# Altium integrated library CDE_Library.IntLib: 6171 symbols (part 12 of 25)
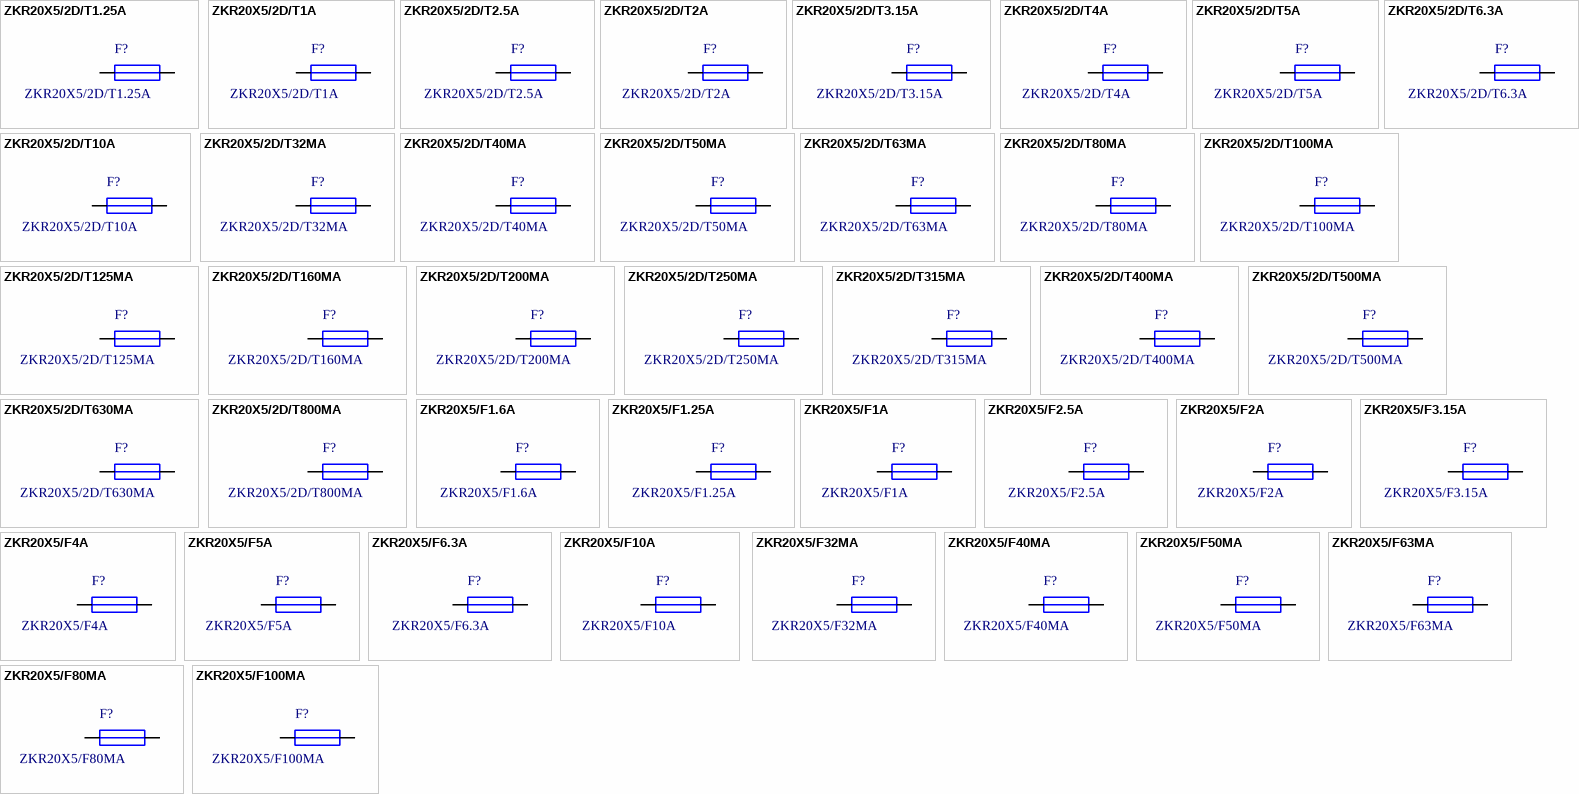
[diagram p268: symbols ZKR20X5/2D/T1.25A to ZKR20X5/F100MA]

## ZKR20X5/2D/T800MA
designator F?
zekering 20x5mm, 2-delige houder, T800mA; Part Number: ZKR20X5/2D/T800MA; Component Kind: Standard; Component Type: Standard; Designator: ZKR20X5/2D/T800MA; Footprint: zkr 20x5 (2-delig); Library Reference: ZKR20X5/2D/T800MA; Pin Count: 2
footprint zkr 20x5 (2-delig)
pins: 1, 2

## ZKR20X5/F1.6A
designator F?
zekering 20x5mm, houder uit één stuk, F1.6A; Part Number: ZKR20X5/F1.6A; Component Kind: Standard; Component Type: Standard; Designator: ZKR20X5/F1.6A; Footprint: zkr 20x5; Library Reference: ZKR20X5/F1.6A; Pin Count: 2
footprint zkr 20x5
pins: 1, 2

## ZKR20X5/F1.25A
designator F?
zekering 20x5mm, houder uit één stuk, F1.25A; Part Number: ZKR20X5/F1.25A; Component Kind: Standard; Component Type: Standard; Designator: ZKR20X5/F1.25A; Footprint: zkr 20x5; Library Reference: ZKR20X5/F1.25A; Pin Count: 2
footprint zkr 20x5
pins: 1, 2

## ZKR20X5/F1A
designator F?
zekering 20x5mm, houder uit één stuk, F1A; Part Number: ZKR20X5/F1A; Component Kind: Standard; Component Type: Standard; Designator: ZKR20X5/F1A; Footprint: zkr 20x5; Library Reference: ZKR20X5/F1A; Pin Count: 2
footprint zkr 20x5
pins: 1, 2

## ZKR20X5/F2.5A
designator F?
zekering 20x5mm, houder uit één stuk, F2.5A; Part Number: ZKR20X5/F2.5A; Component Kind: Standard; Component Type: Standard; Designator: ZKR20X5/F2.5A; Footprint: zkr 20x5; Library Reference: ZKR20X5/F2.5A; Pin Count: 2
footprint zkr 20x5
pins: 1, 2

## ZKR20X5/F2A
designator F?
zekering 20x5mm, houder uit één stuk, F2A; Part Number: ZKR20X5/F2A; Component Kind: Standard; Component Type: Standard; Designator: ZKR20X5/F2A; Footprint: zkr 20x5; Library Reference: ZKR20X5/F2A; Pin Count: 2
footprint zkr 20x5
pins: 1, 2

## ZKR20X5/F3.15A
designator F?
zekering 20x5mm, houder uit één stuk, F3.15A; Part Number: ZKR20X5/F3.15A; Component Kind: Standard; Component Type: Standard; Designator: ZKR20X5/F3.15A; Footprint: zkr 20x5; Library Reference: ZKR20X5/F3.15A; Pin Count: 2
footprint zkr 20x5
pins: 1, 2

## ZKR20X5/F4A
designator F?
zekering 20x5mm, houder uit één stuk, F4A; Part Number: ZKR20X5/F4A; Component Kind: Standard; Component Type: Standard; Designator: ZKR20X5/F4A; Footprint: zkr 20x5; Library Reference: ZKR20X5/F4A; Pin Count: 2
footprint zkr 20x5
pins: 1, 2

## ZKR20X5/F5A
designator F?
zekering 20x5mm, houder uit één stuk, F5A; Part Number: ZKR20X5/F5A; Component Kind: Standard; Component Type: Standard; Designator: ZKR20X5/F5A; Footprint: zkr 20x5; Library Reference: ZKR20X5/F5A; Pin Count: 2
footprint zkr 20x5
pins: 1, 2

## ZKR20X5/F6.3A
designator F?
zekering 20x5mm, houder uit één stuk, F6.3A; Part Number: ZKR20X5/F6.3A; Component Kind: Standard; Component Type: Standard; Designator: ZKR20X5/F6.3A; Footprint: zkr 20x5; Library Reference: ZKR20X5/F6.3A; Pin Count: 2
footprint zkr 20x5
pins: 1, 2

## ZKR20X5/F10A
designator F?
zekering 20x5mm, houder uit één stuk, F10A; Part Number: ZKR20X5/F10A; Component Kind: Standard; Component Type: Standard; Designator: ZKR20X5/F10A; Footprint: zkr 20x5; Library Reference: ZKR20X5/F10A; Pin Count: 2
footprint zkr 20x5
pins: 1, 2

## ZKR20X5/F32MA
designator F?
zekering 20x5mm, houder uit één stuk, F32mA; Part Number: ZKR20X5/F32MA; Component Kind: Standard; Component Type: Standard; Designator: ZKR20X5/F32MA; Footprint: zkr 20x5; Library Reference: ZKR20X5/F32MA; Pin Count: 2
footprint zkr 20x5
pins: 1, 2

## ZKR20X5/F40MA
designator F?
zekering 20x5mm, houder uit één stuk, F40mA; Part Number: ZKR20X5/F40MA; Component Kind: Standard; Component Type: Standard; Designator: ZKR20X5/F40MA; Footprint: zkr 20x5; Library Reference: ZKR20X5/F40MA; Pin Count: 2
footprint zkr 20x5
pins: 1, 2

## ZKR20X5/F50MA
designator F?
zekering 20x5mm, houder uit één stuk, F50mA; Part Number: ZKR20X5/F50MA; Component Kind: Standard; Component Type: Standard; Designator: ZKR20X5/F50MA; Footprint: zkr 20x5; Library Reference: ZKR20X5/F50MA; Pin Count: 2
footprint zkr 20x5
pins: 1, 2

## ZKR20X5/F63MA
designator F?
zekering 20x5mm, houder uit één stuk, F63mA; Part Number: ZKR20X5/F63MA; Component Kind: Standard; Component Type: Standard; Designator: ZKR20X5/F63MA; Footprint: zkr 20x5; Library Reference: ZKR20X5/F63MA; Pin Count: 2
footprint zkr 20x5
pins: 1, 2

## ZKR20X5/F80MA
designator F?
zekering 20x5mm, houder uit één stuk, F80mA; Part Number: ZKR20X5/F80MA; Component Kind: Standard; Component Type: Standard; Designator: ZKR20X5/F80MA; Footprint: zkr 20x5; Library Reference: ZKR20X5/F80MA; Pin Count: 2
footprint zkr 20x5
pins: 1, 2

## ZKR20X5/F100MA
designator F?
zekering 20x5mm, houder uit één stuk, F100mA; Part Number: ZKR20X5/F100MA; Component Kind: Standard; Component Type: Standard; Designator: ZKR20X5/F100MA; Footprint: zkr 20x5; Library Reference: ZKR20X5/F100MA; Pin Count: 2
footprint zkr 20x5
pins: 1, 2

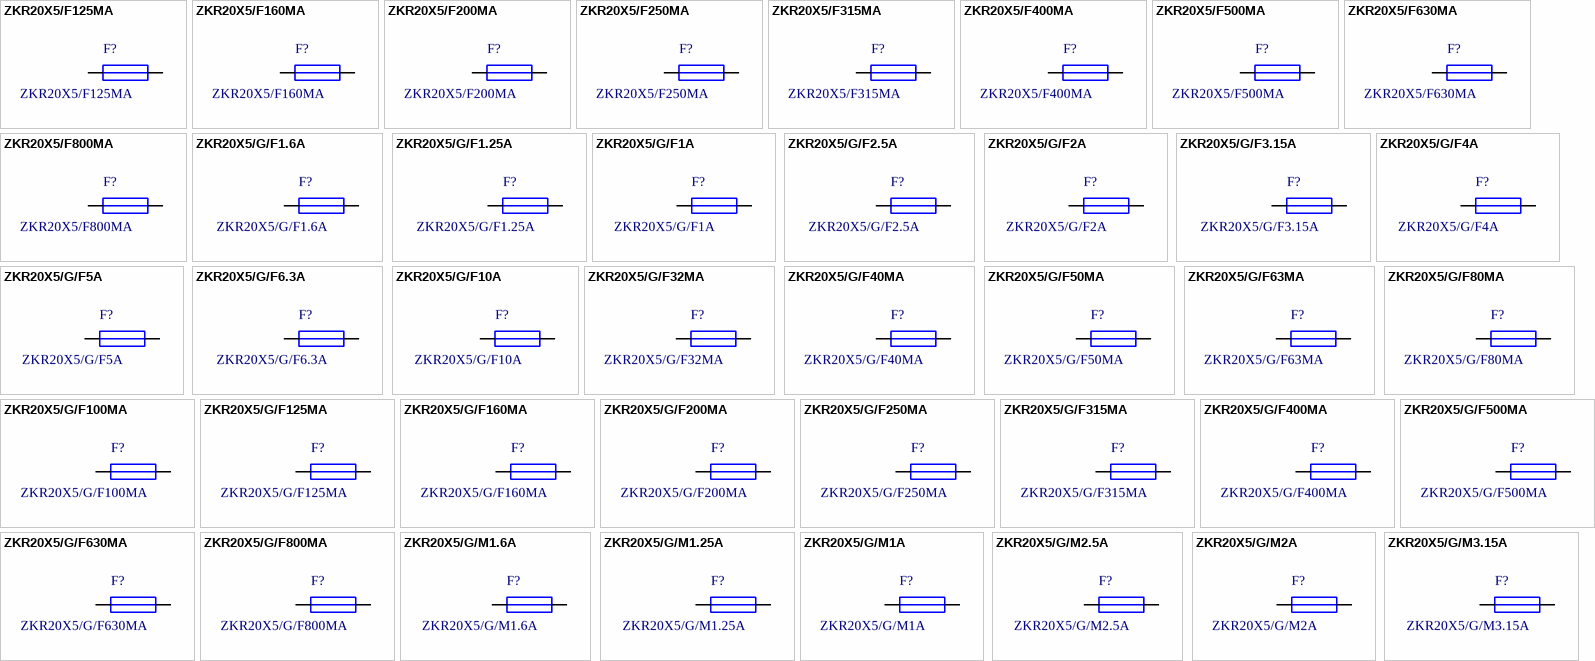
[diagram p126: symbols ZKR20X5/F125MA to ZKR20X5/G/M3.15A]

## ZKR20X5/F125MA
designator F?
zekering 20x5mm, houder uit één stuk, F125mA; Part Number: ZKR20X5/F125MA; Component Kind: Standard; Component Type: Standard; Designator: ZKR20X5/F125MA; Footprint: zkr 20x5; Library Reference: ZKR20X5/F125MA; Pin Count: 2
footprint zkr 20x5
pins: 1, 2

## ZKR20X5/F160MA
designator F?
zekering 20x5mm, houder uit één stuk, F160mA; Part Number: ZKR20X5/F160MA; Component Kind: Standard; Component Type: Standard; Designator: ZKR20X5/F160MA; Footprint: zkr 20x5; Library Reference: ZKR20X5/F160MA; Pin Count: 2
footprint zkr 20x5
pins: 1, 2

## ZKR20X5/F200MA
designator F?
zekering 20x5mm, houder uit één stuk, F200mA; Part Number: ZKR20X5/F200MA; Component Kind: Standard; Component Type: Standard; Designator: ZKR20X5/F200MA; Footprint: zkr 20x5; Library Reference: ZKR20X5/F200MA; Pin Count: 2
footprint zkr 20x5
pins: 1, 2

## ZKR20X5/F250MA
designator F?
zekering 20x5mm, houder uit één stuk, F250mA; Part Number: ZKR20X5/F250MA; Component Kind: Standard; Component Type: Standard; Designator: ZKR20X5/F250MA; Footprint: zkr 20x5; Library Reference: ZKR20X5/F250MA; Pin Count: 2
footprint zkr 20x5
pins: 1, 2

## ZKR20X5/F315MA
designator F?
zekering 20x5mm, houder uit één stuk, F315mA; Part Number: ZKR20X5/F315MA; Component Kind: Standard; Component Type: Standard; Designator: ZKR20X5/F315MA; Footprint: zkr 20x5; Library Reference: ZKR20X5/F315MA; Pin Count: 2
footprint zkr 20x5
pins: 1, 2

## ZKR20X5/F400MA
designator F?
zekering 20x5mm, houder uit één stuk, F400mA; Part Number: ZKR20X5/F400MA; Component Kind: Standard; Component Type: Standard; Designator: ZKR20X5/F400MA; Footprint: zkr 20x5; Library Reference: ZKR20X5/F400MA; Pin Count: 2
footprint zkr 20x5
pins: 1, 2

## ZKR20X5/F500MA
designator F?
zekering 20x5mm, houder uit één stuk, F500mA; Part Number: ZKR20X5/F500MA; Component Kind: Standard; Component Type: Standard; Designator: ZKR20X5/F500MA; Footprint: zkr 20x5; Library Reference: ZKR20X5/F500MA; Pin Count: 2
footprint zkr 20x5
pins: 1, 2

## ZKR20X5/F630MA
designator F?
zekering 20x5mm, houder uit één stuk, F630mA; Part Number: ZKR20X5/F630MA; Component Kind: Standard; Component Type: Standard; Designator: ZKR20X5/F630MA; Footprint: zkr 20x5; Library Reference: ZKR20X5/F630MA; Pin Count: 2
footprint zkr 20x5
pins: 1, 2

## ZKR20X5/F800MA
designator F?
zekering 20x5mm, houder uit één stuk, F800mA; Part Number: ZKR20X5/F800MA; Component Kind: Standard; Component Type: Standard; Designator: ZKR20X5/F800MA; Footprint: zkr 20x5; Library Reference: ZKR20X5/F800MA; Pin Count: 2
footprint zkr 20x5
pins: 1, 2

## ZKR20X5/G/F1.6A
designator F?
zekering 20x5mm, gesloten houder met schroefdopje, F1.6A; Part Number: ZKR20X5/G/F1.6A; Component Kind: Standard; Component Type: Standard; Designator: ZKR20X5/G/F1.6A; Footprint: zkr 20x5 (gesloten); Library Reference: ZKR20X5/G/F1.6A; Pin Count: 2
footprint zkr 20x5 (gesloten)
pins: 1, 2

## ZKR20X5/G/F1.25A
designator F?
zekering 20x5mm, gesloten houder met schroefdopje, F1.25A; Part Number: ZKR20X5/G/F1.25A; Component Kind: Standard; Component Type: Standard; Designator: ZKR20X5/G/F1.25A; Footprint: zkr 20x5 (gesloten); Library Reference: ZKR20X5/G/F1.25A; Pin Count: 2
footprint zkr 20x5 (gesloten)
pins: 1, 2

## ZKR20X5/G/F1A
designator F?
zekering 20x5mm, gesloten houder met schroefdopje, F1A; Part Number: ZKR20X5/G/F1A; Component Kind: Standard; Component Type: Standard; Designator: ZKR20X5/G/F1A; Footprint: zkr 20x5 (gesloten); Library Reference: ZKR20X5/G/F1A; Pin Count: 2
footprint zkr 20x5 (gesloten)
pins: 1, 2

## ZKR20X5/G/F2.5A
designator F?
zekering 20x5mm, gesloten houder met schroefdopje, F2.5A; Part Number: ZKR20X5/G/F2.5A; Component Kind: Standard; Component Type: Standard; Designator: ZKR20X5/G/F2.5A; Footprint: zkr 20x5 (gesloten); Library Reference: ZKR20X5/G/F2.5A; Pin Count: 2
footprint zkr 20x5 (gesloten)
pins: 1, 2

## ZKR20X5/G/F2A
designator F?
zekering 20x5mm, gesloten houder met schroefdopje, F2A; Part Number: ZKR20X5/G/F2A; Component Kind: Standard; Component Type: Standard; Designator: ZKR20X5/G/F2A; Footprint: zkr 20x5 (gesloten); Library Reference: ZKR20X5/G/F2A; Pin Count: 2
footprint zkr 20x5 (gesloten)
pins: 1, 2

## ZKR20X5/G/F3.15A
designator F?
zekering 20x5mm, gesloten houder met schroefdopje, F3.15A; Part Number: ZKR20X5/G/F3.15A; Component Kind: Standard; Component Type: Standard; Designator: ZKR20X5/G/F3.15A; Footprint: zkr 20x5 (gesloten); Library Reference: ZKR20X5/G/F3.15A; Pin Count: 2
footprint zkr 20x5 (gesloten)
pins: 1, 2

## ZKR20X5/G/F4A
designator F?
zekering 20x5mm, gesloten houder met schroefdopje, F4A; Part Number: ZKR20X5/G/F4A; Component Kind: Standard; Component Type: Standard; Designator: ZKR20X5/G/F4A; Footprint: zkr 20x5 (gesloten); Library Reference: ZKR20X5/G/F4A; Pin Count: 2
footprint zkr 20x5 (gesloten)
pins: 1, 2

## ZKR20X5/G/F5A
designator F?
zekering 20x5mm, gesloten houder met schroefdopje, F5A; Part Number: ZKR20X5/G/F5A; Component Kind: Standard; Component Type: Standard; Designator: ZKR20X5/G/F5A; Footprint: zkr 20x5 (gesloten); Library Reference: ZKR20X5/G/F5A; Pin Count: 2
footprint zkr 20x5 (gesloten)
pins: 1, 2

## ZKR20X5/G/F6.3A
designator F?
zekering 20x5mm, gesloten houder met schroefdopje, F6.3A; Part Number: ZKR20X5/G/F6.3A; Component Kind: Standard; Component Type: Standard; Designator: ZKR20X5/G/F6.3A; Footprint: zkr 20x5 (gesloten); Library Reference: ZKR20X5/G/F6.3A; Pin Count: 2
footprint zkr 20x5 (gesloten)
pins: 1, 2

## ZKR20X5/G/F10A
designator F?
zekering 20x5mm, gesloten houder met schroefdopje, F10A; Part Number: ZKR20X5/G/F10A; Component Kind: Standard; Component Type: Standard; Designator: ZKR20X5/G/F10A; Footprint: zkr 20x5 (gesloten); Library Reference: ZKR20X5/G/F10A; Pin Count: 2
footprint zkr 20x5 (gesloten)
pins: 1, 2

## ZKR20X5/G/F32MA
designator F?
zekering 20x5mm, gesloten houder met schroefdopje, F32mA; Part Number: ZKR20X5/G/F32MA; Component Kind: Standard; Component Type: Standard; Designator: ZKR20X5/G/F32MA; Footprint: zkr 20x5 (gesloten); Library Reference: ZKR20X5/G/F32MA; Pin Count: 2
footprint zkr 20x5 (gesloten)
pins: 1, 2

## ZKR20X5/G/F40MA
designator F?
zekering 20x5mm, gesloten houder met schroefdopje, F40mA; Part Number: ZKR20X5/G/F40MA; Component Kind: Standard; Component Type: Standard; Designator: ZKR20X5/G/F40MA; Footprint: zkr 20x5 (gesloten); Library Reference: ZKR20X5/G/F40MA; Pin Count: 2
footprint zkr 20x5 (gesloten)
pins: 1, 2

## ZKR20X5/G/F50MA
designator F?
zekering 20x5mm, gesloten houder met schroefdopje, F50mA; Part Number: ZKR20X5/G/F50MA; Component Kind: Standard; Component Type: Standard; Designator: ZKR20X5/G/F50MA; Footprint: zkr 20x5 (gesloten); Library Reference: ZKR20X5/G/F50MA; Pin Count: 2
footprint zkr 20x5 (gesloten)
pins: 1, 2

## ZKR20X5/G/F63MA
designator F?
zekering 20x5mm, gesloten houder met schroefdopje, F63mA; Part Number: ZKR20X5/G/F63MA; Component Kind: Standard; Component Type: Standard; Designator: ZKR20X5/G/F63MA; Footprint: zkr 20x5 (gesloten); Library Reference: ZKR20X5/G/F63MA; Pin Count: 2
footprint zkr 20x5 (gesloten)
pins: 1, 2

## ZKR20X5/G/F80MA
designator F?
zekering 20x5mm, gesloten houder met schroefdopje, F80mA; Part Number: ZKR20X5/G/F80MA; Component Kind: Standard; Component Type: Standard; Designator: ZKR20X5/G/F80MA; Footprint: zkr 20x5 (gesloten); Library Reference: ZKR20X5/G/F80MA; Pin Count: 2
footprint zkr 20x5 (gesloten)
pins: 1, 2

## ZKR20X5/G/F100MA
designator F?
zekering 20x5mm, gesloten houder met schroefdopje, F100mA; Part Number: ZKR20X5/G/F100MA; Component Kind: Standard; Component Type: Standard; Designator: ZKR20X5/G/F100MA; Footprint: zkr 20x5 (gesloten); Library Reference: ZKR20X5/G/F100MA; Pin Count: 2
footprint zkr 20x5 (gesloten)
pins: 1, 2

## ZKR20X5/G/F125MA
designator F?
zekering 20x5mm, gesloten houder met schroefdopje, F125mA; Part Number: ZKR20X5/G/F125MA; Component Kind: Standard; Component Type: Standard; Designator: ZKR20X5/G/F125MA; Footprint: zkr 20x5 (gesloten); Library Reference: ZKR20X5/G/F125MA; Pin Count: 2
footprint zkr 20x5 (gesloten)
pins: 1, 2

## ZKR20X5/G/F160MA
designator F?
zekering 20x5mm, gesloten houder met schroefdopje, F160mA; Part Number: ZKR20X5/G/F160MA; Component Kind: Standard; Component Type: Standard; Designator: ZKR20X5/G/F160MA; Footprint: zkr 20x5 (gesloten); Library Reference: ZKR20X5/G/F160MA; Pin Count: 2
footprint zkr 20x5 (gesloten)
pins: 1, 2

## ZKR20X5/G/F200MA
designator F?
zekering 20x5mm, gesloten houder met schroefdopje, F200mA; Part Number: ZKR20X5/G/F200MA; Component Kind: Standard; Component Type: Standard; Designator: ZKR20X5/G/F200MA; Footprint: zkr 20x5 (gesloten); Library Reference: ZKR20X5/G/F200MA; Pin Count: 2
footprint zkr 20x5 (gesloten)
pins: 1, 2

## ZKR20X5/G/F250MA
designator F?
zekering 20x5mm, gesloten houder met schroefdopje, F250mA; Part Number: ZKR20X5/G/F250MA; Component Kind: Standard; Component Type: Standard; Designator: ZKR20X5/G/F250MA; Footprint: zkr 20x5 (gesloten); Library Reference: ZKR20X5/G/F250MA; Pin Count: 2
footprint zkr 20x5 (gesloten)
pins: 1, 2

## ZKR20X5/G/F315MA
designator F?
zekering 20x5mm, gesloten houder met schroefdopje, F315mA; Part Number: ZKR20X5/G/F315MA; Component Kind: Standard; Component Type: Standard; Designator: ZKR20X5/G/F315MA; Footprint: zkr 20x5 (gesloten); Library Reference: ZKR20X5/G/F315MA; Pin Count: 2
footprint zkr 20x5 (gesloten)
pins: 1, 2

## ZKR20X5/G/F400MA
designator F?
zekering 20x5mm, gesloten houder met schroefdopje, F400mA; Part Number: ZKR20X5/G/F400MA; Component Kind: Standard; Component Type: Standard; Designator: ZKR20X5/G/F400MA; Footprint: zkr 20x5 (gesloten); Library Reference: ZKR20X5/G/F400MA; Pin Count: 2
footprint zkr 20x5 (gesloten)
pins: 1, 2

## ZKR20X5/G/F500MA
designator F?
zekering 20x5mm, gesloten houder met schroefdopje, F500mA; Part Number: ZKR20X5/G/F500MA; Component Kind: Standard; Component Type: Standard; Designator: ZKR20X5/G/F500MA; Footprint: zkr 20x5 (gesloten); Library Reference: ZKR20X5/G/F500MA; Pin Count: 2
footprint zkr 20x5 (gesloten)
pins: 1, 2

## ZKR20X5/G/F630MA
designator F?
zekering 20x5mm, gesloten houder met schroefdopje, F630mA; Part Number: ZKR20X5/G/F630MA; Component Kind: Standard; Component Type: Standard; Designator: ZKR20X5/G/F630MA; Footprint: zkr 20x5 (gesloten); Library Reference: ZKR20X5/G/F630MA; Pin Count: 2
footprint zkr 20x5 (gesloten)
pins: 1, 2

## ZKR20X5/G/F800MA
designator F?
zekering 20x5mm, gesloten houder met schroefdopje, F800mA; Part Number: ZKR20X5/G/F800MA; Component Kind: Standard; Component Type: Standard; Designator: ZKR20X5/G/F800MA; Footprint: zkr 20x5 (gesloten); Library Reference: ZKR20X5/G/F800MA; Pin Count: 2
footprint zkr 20x5 (gesloten)
pins: 1, 2

## ZKR20X5/G/M1.6A
designator F?
zekering 20x5mm, gesloten houder met schroefdopje, M1.6A; Part Number: ZKR20X5/G/M1.6A; Component Kind: Standard; Component Type: Standard; Designator: ZKR20X5/G/M1.6A; Footprint: zkr 20x5 (gesloten); Library Reference: ZKR20X5/G/M1.6A; Pin Count: 2
footprint zkr 20x5 (gesloten)
pins: 1, 2

## ZKR20X5/G/M1.25A
designator F?
zekering 20x5mm, gesloten houder met schroefdopje, M1.25A; Part Number: ZKR20X5/G/M1.25A; Component Kind: Standard; Component Type: Standard; Designator: ZKR20X5/G/M1.25A; Footprint: zkr 20x5 (gesloten); Library Reference: ZKR20X5/G/M1.25A; Pin Count: 2
footprint zkr 20x5 (gesloten)
pins: 1, 2

## ZKR20X5/G/M1A
designator F?
zekering 20x5mm, gesloten houder met schroefdopje, M1A; Part Number: ZKR20X5/G/M1A; Component Kind: Standard; Component Type: Standard; Designator: ZKR20X5/G/M1A; Footprint: zkr 20x5 (gesloten); Library Reference: ZKR20X5/G/M1A; Pin Count: 2
footprint zkr 20x5 (gesloten)
pins: 1, 2

## ZKR20X5/G/M2.5A
designator F?
zekering 20x5mm, gesloten houder met schroefdopje, M2.5A; Part Number: ZKR20X5/G/M2.5A; Component Kind: Standard; Component Type: Standard; Designator: ZKR20X5/G/M2.5A; Footprint: zkr 20x5 (gesloten); Library Reference: ZKR20X5/G/M2.5A; Pin Count: 2
footprint zkr 20x5 (gesloten)
pins: 1, 2

## ZKR20X5/G/M2A
designator F?
zekering 20x5mm, gesloten houder met schroefdopje, M2A; Part Number: ZKR20X5/G/M2A; Component Kind: Standard; Component Type: Standard; Designator: ZKR20X5/G/M2A; Footprint: zkr 20x5 (gesloten); Library Reference: ZKR20X5/G/M2A; Pin Count: 2
footprint zkr 20x5 (gesloten)
pins: 1, 2

## ZKR20X5/G/M3.15A
designator F?
zekering 20x5mm, gesloten houder met schroefdopje, M3.15A; Part Number: ZKR20X5/G/M3.15A; Component Kind: Standard; Component Type: Standard; Designator: ZKR20X5/G/M3.15A; Footprint: zkr 20x5 (gesloten); Library Reference: ZKR20X5/G/M3.15A; Pin Count: 2
footprint zkr 20x5 (gesloten)
pins: 1, 2

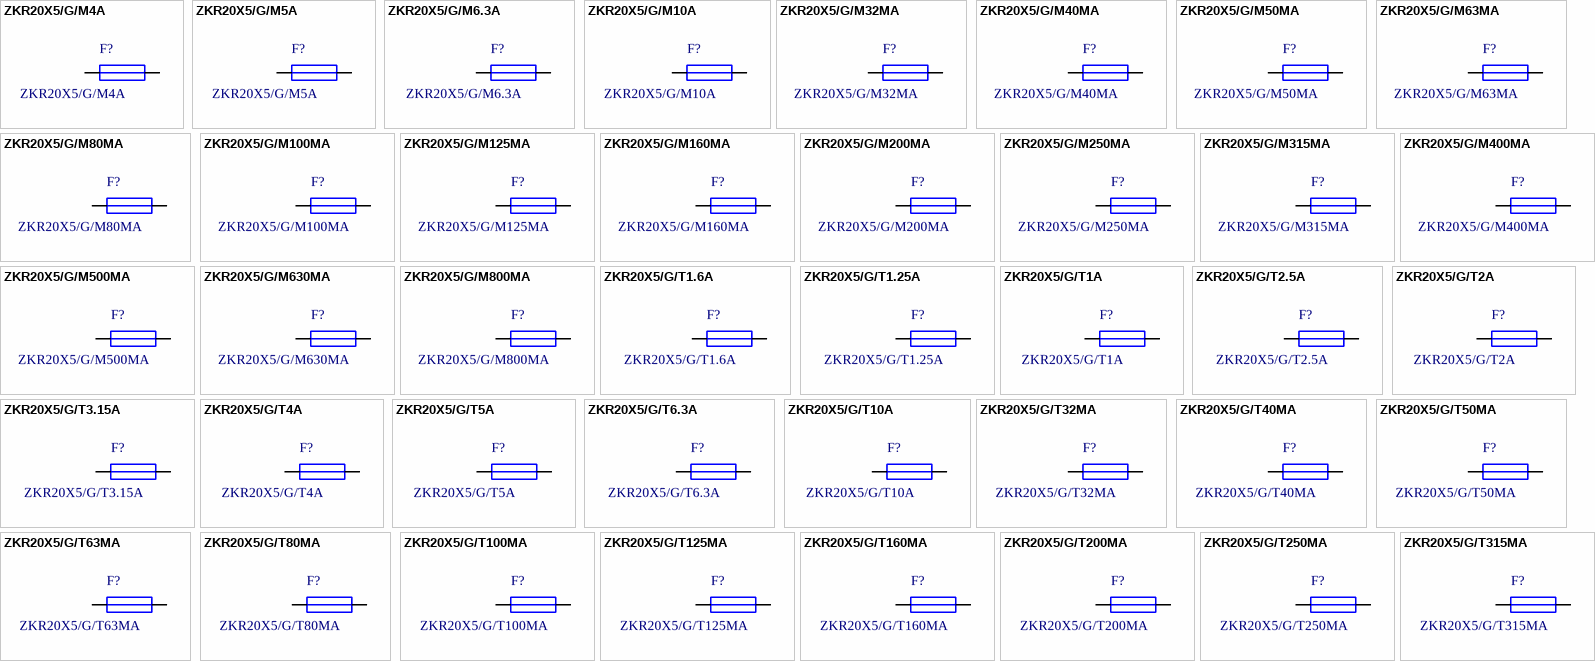
[diagram p127: symbols ZKR20X5/G/M4A to ZKR20X5/G/T315MA]

## ZKR20X5/G/M4A
designator F?
zekering 20x5mm, gesloten houder met schroefdopje, M4A; Part Number: ZKR20X5/G/M4A; Component Kind: Standard; Component Type: Standard; Designator: ZKR20X5/G/M4A; Footprint: zkr 20x5 (gesloten); Library Reference: ZKR20X5/G/M4A; Pin Count: 2
footprint zkr 20x5 (gesloten)
pins: 1, 2

## ZKR20X5/G/M5A
designator F?
zekering 20x5mm, gesloten houder met schroefdopje, M5A; Part Number: ZKR20X5/G/M5A; Component Kind: Standard; Component Type: Standard; Designator: ZKR20X5/G/M5A; Footprint: zkr 20x5 (gesloten); Library Reference: ZKR20X5/G/M5A; Pin Count: 2
footprint zkr 20x5 (gesloten)
pins: 1, 2

## ZKR20X5/G/M6.3A
designator F?
zekering 20x5mm, gesloten houder met schroefdopje, M6.3A; Part Number: ZKR20X5/G/M6.3A; Component Kind: Standard; Component Type: Standard; Designator: ZKR20X5/G/M6.3A; Footprint: zkr 20x5 (gesloten); Library Reference: ZKR20X5/G/M6.3A; Pin Count: 2
footprint zkr 20x5 (gesloten)
pins: 1, 2

## ZKR20X5/G/M10A
designator F?
zekering 20x5mm, gesloten houder met schroefdopje, M10A; Part Number: ZKR20X5/G/M10A; Component Kind: Standard; Component Type: Standard; Designator: ZKR20X5/G/M10A; Footprint: zkr 20x5 (gesloten); Library Reference: ZKR20X5/G/M10A; Pin Count: 2
footprint zkr 20x5 (gesloten)
pins: 1, 2

## ZKR20X5/G/M32MA
designator F?
zekering 20x5mm, gesloten houder met schroefdopje, M32mA; Part Number: ZKR20X5/G/M32MA; Component Kind: Standard; Component Type: Standard; Designator: ZKR20X5/G/M32MA; Footprint: zkr 20x5 (gesloten); Library Reference: ZKR20X5/G/M32MA; Pin Count: 2
footprint zkr 20x5 (gesloten)
pins: 1, 2

## ZKR20X5/G/M40MA
designator F?
zekering 20x5mm, gesloten houder met schroefdopje, M40mA; Part Number: ZKR20X5/G/M40MA; Component Kind: Standard; Component Type: Standard; Designator: ZKR20X5/G/M40MA; Footprint: zkr 20x5 (gesloten); Library Reference: ZKR20X5/G/M40MA; Pin Count: 2
footprint zkr 20x5 (gesloten)
pins: 1, 2

## ZKR20X5/G/M50MA
designator F?
zekering 20x5mm, gesloten houder met schroefdopje, M50mA; Part Number: ZKR20X5/G/M50MA; Component Kind: Standard; Component Type: Standard; Designator: ZKR20X5/G/M50MA; Footprint: zkr 20x5 (gesloten); Library Reference: ZKR20X5/G/M50MA; Pin Count: 2
footprint zkr 20x5 (gesloten)
pins: 1, 2

## ZKR20X5/G/M63MA
designator F?
zekering 20x5mm, gesloten houder met schroefdopje, M63mA; Part Number: ZKR20X5/G/M63MA; Component Kind: Standard; Component Type: Standard; Designator: ZKR20X5/G/M63MA; Footprint: zkr 20x5 (gesloten); Library Reference: ZKR20X5/G/M63MA; Pin Count: 2
footprint zkr 20x5 (gesloten)
pins: 1, 2

## ZKR20X5/G/M80MA
designator F?
zekering 20x5mm, gesloten houder met schroefdopje, M80mA; Part Number: ZKR20X5/G/M80MA; Component Kind: Standard; Component Type: Standard; Designator: ZKR20X5/G/M80MA; Footprint: zkr 20x5 (gesloten); Library Reference: ZKR20X5/G/M80MA; Pin Count: 2
footprint zkr 20x5 (gesloten)
pins: 1, 2

## ZKR20X5/G/M100MA
designator F?
zekering 20x5mm, gesloten houder met schroefdopje, M100mA; Part Number: ZKR20X5/G/M100MA; Component Kind: Standard; Component Type: Standard; Designator: ZKR20X5/G/M100MA; Footprint: zkr 20x5 (gesloten); Library Reference: ZKR20X5/G/M100MA; Pin Count: 2
footprint zkr 20x5 (gesloten)
pins: 1, 2

## ZKR20X5/G/M125MA
designator F?
zekering 20x5mm, gesloten houder met schroefdopje, M125mA; Part Number: ZKR20X5/G/M125MA; Component Kind: Standard; Component Type: Standard; Designator: ZKR20X5/G/M125MA; Footprint: zkr 20x5 (gesloten); Library Reference: ZKR20X5/G/M125MA; Pin Count: 2
footprint zkr 20x5 (gesloten)
pins: 1, 2

## ZKR20X5/G/M160MA
designator F?
zekering 20x5mm, gesloten houder met schroefdopje, M160mA; Part Number: ZKR20X5/G/M160MA; Component Kind: Standard; Component Type: Standard; Designator: ZKR20X5/G/M160MA; Footprint: zkr 20x5 (gesloten); Library Reference: ZKR20X5/G/M160MA; Pin Count: 2
footprint zkr 20x5 (gesloten)
pins: 1, 2

## ZKR20X5/G/M200MA
designator F?
zekering 20x5mm, gesloten houder met schroefdopje, M200mA; Part Number: ZKR20X5/G/M200MA; Component Kind: Standard; Component Type: Standard; Designator: ZKR20X5/G/M200MA; Footprint: zkr 20x5 (gesloten); Library Reference: ZKR20X5/G/M200MA; Pin Count: 2
footprint zkr 20x5 (gesloten)
pins: 1, 2

## ZKR20X5/G/M250MA
designator F?
zekering 20x5mm, gesloten houder met schroefdopje, M250mA; Part Number: ZKR20X5/G/M250MA; Component Kind: Standard; Component Type: Standard; Designator: ZKR20X5/G/M250MA; Footprint: zkr 20x5 (gesloten); Library Reference: ZKR20X5/G/M250MA; Pin Count: 2
footprint zkr 20x5 (gesloten)
pins: 1, 2

## ZKR20X5/G/M315MA
designator F?
zekering 20x5mm, gesloten houder met schroefdopje, M315mA; Part Number: ZKR20X5/G/M315MA; Component Kind: Standard; Component Type: Standard; Designator: ZKR20X5/G/M315MA; Footprint: zkr 20x5 (gesloten); Library Reference: ZKR20X5/G/M315MA; Pin Count: 2
footprint zkr 20x5 (gesloten)
pins: 1, 2

## ZKR20X5/G/M400MA
designator F?
zekering 20x5mm, gesloten houder met schroefdopje, M400mA; Part Number: ZKR20X5/G/M400MA; Component Kind: Standard; Component Type: Standard; Designator: ZKR20X5/G/M400MA; Footprint: zkr 20x5 (gesloten); Library Reference: ZKR20X5/G/M400MA; Pin Count: 2
footprint zkr 20x5 (gesloten)
pins: 1, 2

## ZKR20X5/G/M500MA
designator F?
zekering 20x5mm, gesloten houder met schroefdopje, M500mA; Part Number: ZKR20X5/G/M500MA; Component Kind: Standard; Component Type: Standard; Designator: ZKR20X5/G/M500MA; Footprint: zkr 20x5 (gesloten); Library Reference: ZKR20X5/G/M500MA; Pin Count: 2
footprint zkr 20x5 (gesloten)
pins: 1, 2

## ZKR20X5/G/M630MA
designator F?
zekering 20x5mm, gesloten houder met schroefdopje, M630mA; Part Number: ZKR20X5/G/M630MA; Component Kind: Standard; Component Type: Standard; Designator: ZKR20X5/G/M630MA; Footprint: zkr 20x5 (gesloten); Library Reference: ZKR20X5/G/M630MA; Pin Count: 2
footprint zkr 20x5 (gesloten)
pins: 1, 2

## ZKR20X5/G/M800MA
designator F?
zekering 20x5mm, gesloten houder met schroefdopje, M800mA; Part Number: ZKR20X5/G/M800MA; Component Kind: Standard; Component Type: Standard; Designator: ZKR20X5/G/M800MA; Footprint: zkr 20x5 (gesloten); Library Reference: ZKR20X5/G/M800MA; Pin Count: 2
footprint zkr 20x5 (gesloten)
pins: 1, 2

## ZKR20X5/G/T1.6A
designator F?
zekering 20x5mm, gesloten houder met schroefdopje, T1.6A; Part Number: ZKR20X5/G/T1.6A; Component Kind: Standard; Component Type: Standard; Designator: ZKR20X5/G/T1.6A; Footprint: zkr 20x5 (gesloten); Library Reference: ZKR20X5/G/T1.6A; Pin Count: 2
footprint zkr 20x5 (gesloten)
pins: 1, 2

## ZKR20X5/G/T1.25A
designator F?
zekering 20x5mm, gesloten houder met schroefdopje, T1.25A; Part Number: ZKR20X5/G/T1.25A; Component Kind: Standard; Component Type: Standard; Designator: ZKR20X5/G/T1.25A; Footprint: zkr 20x5 (gesloten); Library Reference: ZKR20X5/G/T1.25A; Pin Count: 2
footprint zkr 20x5 (gesloten)
pins: 1, 2

## ZKR20X5/G/T1A
designator F?
zekering 20x5mm, gesloten houder met schroefdopje, T1A; Part Number: ZKR20X5/G/T1A; Component Kind: Standard; Component Type: Standard; Designator: ZKR20X5/G/T1A; Footprint: zkr 20x5 (gesloten); Library Reference: ZKR20X5/G/T1A; Pin Count: 2
footprint zkr 20x5 (gesloten)
pins: 1, 2

## ZKR20X5/G/T2.5A
designator F?
zekering 20x5mm, gesloten houder met schroefdopje, T2.5A; Part Number: ZKR20X5/G/T2.5A; Component Kind: Standard; Component Type: Standard; Designator: ZKR20X5/G/T2.5A; Footprint: zkr 20x5 (gesloten); Library Reference: ZKR20X5/G/T2.5A; Pin Count: 2
footprint zkr 20x5 (gesloten)
pins: 1, 2

## ZKR20X5/G/T2A
designator F?
zekering 20x5mm, gesloten houder met schroefdopje, T2A; Part Number: ZKR20X5/G/T2A; Component Kind: Standard; Component Type: Standard; Designator: ZKR20X5/G/T2A; Footprint: zkr 20x5 (gesloten); Library Reference: ZKR20X5/G/T2A; Pin Count: 2
footprint zkr 20x5 (gesloten)
pins: 1, 2

## ZKR20X5/G/T3.15A
designator F?
zekering 20x5mm, gesloten houder met schroefdopje, T3.15A; Part Number: ZKR20X5/G/T3.15A; Component Kind: Standard; Component Type: Standard; Designator: ZKR20X5/G/T3.15A; Footprint: zkr 20x5 (gesloten); Library Reference: ZKR20X5/G/T3.15A; Pin Count: 2
footprint zkr 20x5 (gesloten)
pins: 1, 2

## ZKR20X5/G/T4A
designator F?
zekering 20x5mm, gesloten houder met schroefdopje, T4A; Part Number: ZKR20X5/G/T4A; Component Kind: Standard; Component Type: Standard; Designator: ZKR20X5/G/T4A; Footprint: zkr 20x5 (gesloten); Library Reference: ZKR20X5/G/T4A; Pin Count: 2
footprint zkr 20x5 (gesloten)
pins: 1, 2

## ZKR20X5/G/T5A
designator F?
zekering 20x5mm, gesloten houder met schroefdopje, T5A; Part Number: ZKR20X5/G/T5A; Component Kind: Standard; Component Type: Standard; Designator: ZKR20X5/G/T5A; Footprint: zkr 20x5 (gesloten); Library Reference: ZKR20X5/G/T5A; Pin Count: 2
footprint zkr 20x5 (gesloten)
pins: 1, 2

## ZKR20X5/G/T6.3A
designator F?
zekering 20x5mm, gesloten houder met schroefdopje, T6.3A; Part Number: ZKR20X5/G/T6.3A; Component Kind: Standard; Component Type: Standard; Designator: ZKR20X5/G/T6.3A; Footprint: zkr 20x5 (gesloten); Library Reference: ZKR20X5/G/T6.3A; Pin Count: 2
footprint zkr 20x5 (gesloten)
pins: 1, 2

## ZKR20X5/G/T10A
designator F?
zekering 20x5mm, gesloten houder met schroefdopje, T10A; Part Number: ZKR20X5/G/T10A; Component Kind: Standard; Component Type: Standard; Designator: ZKR20X5/G/T10A; Footprint: zkr 20x5 (gesloten); Library Reference: ZKR20X5/G/T10A; Pin Count: 2
footprint zkr 20x5 (gesloten)
pins: 1, 2

## ZKR20X5/G/T32MA
designator F?
zekering 20x5mm, gesloten houder met schroefdopje, T32mA
footprint zkr 20x5 (gesloten)
pins: 1, 2

## ZKR20X5/G/T40MA
designator F?
zekering 20x5mm, gesloten houder met schroefdopje, T40mA; Part Number: ZKR20X5/G/T40MA; Component Kind: Standard; Component Type: Standard; Designator: ZKR20X5/G/T40MA; Footprint: zkr 20x5 (gesloten); Library Reference: ZKR20X5/G/T40MA; Pin Count: 2
footprint zkr 20x5 (gesloten)
pins: 1, 2

## ZKR20X5/G/T50MA
designator F?
zekering 20x5mm, gesloten houder met schroefdopje, T50mA; Part Number: ZKR20X5/G/T50MA; Component Kind: Standard; Component Type: Standard; Designator: ZKR20X5/G/T50MA; Footprint: zkr 20x5 (gesloten); Library Reference: ZKR20X5/G/T50MA; Pin Count: 2
footprint zkr 20x5 (gesloten)
pins: 1, 2

## ZKR20X5/G/T63MA
designator F?
zekering 20x5mm, gesloten houder met schroefdopje, T63mA; Part Number: ZKR20X5/G/T63MA; Component Kind: Standard; Component Type: Standard; Designator: ZKR20X5/G/T63MA; Footprint: zkr 20x5 (gesloten); Library Reference: ZKR20X5/G/T63MA; Pin Count: 2
footprint zkr 20x5 (gesloten)
pins: 1, 2

## ZKR20X5/G/T80MA
designator F?
zekering 20x5mm, gesloten houder met schroefdopje, T80mA; Part Number: ZKR20X5/G/T80MA; Component Kind: Standard; Component Type: Standard; Designator: ZKR20X5/G/T80MA; Footprint: zkr 20x5 (gesloten); Library Reference: ZKR20X5/G/T80MA; Pin Count: 2
footprint zkr 20x5 (gesloten)
pins: 1, 2

## ZKR20X5/G/T100MA
designator F?
zekering 20x5mm, gesloten houder met schroefdopje, T100mA; Part Number: ZKR20X5/G/T100MA; Component Kind: Standard; Component Type: Standard; Designator: ZKR20X5/G/T100MA; Footprint: zkr 20x5 (gesloten); Library Reference: ZKR20X5/G/T100MA; Pin Count: 2
footprint zkr 20x5 (gesloten)
pins: 1, 2

## ZKR20X5/G/T125MA
designator F?
zekering 20x5mm, gesloten houder met schroefdopje, T125mA; Part Number: ZKR20X5/G/T125MA; Component Kind: Standard; Component Type: Standard; Designator: ZKR20X5/G/T125MA; Footprint: zkr 20x5 (gesloten); Library Reference: ZKR20X5/G/T125MA; Pin Count: 2
footprint zkr 20x5 (gesloten)
pins: 1, 2

## ZKR20X5/G/T160MA
designator F?
zekering 20x5mm, gesloten houder met schroefdopje, T160mA; Part Number: ZKR20X5/G/T160MA; Component Kind: Standard; Component Type: Standard; Designator: ZKR20X5/G/T160MA; Footprint: zkr 20x5 (gesloten); Library Reference: ZKR20X5/G/T160MA; Pin Count: 2
footprint zkr 20x5 (gesloten)
pins: 1, 2

## ZKR20X5/G/T200MA
designator F?
zekering 20x5mm, gesloten houder met schroefdopje, T200mA; Part Number: ZKR20X5/G/T200MA; Component Kind: Standard; Component Type: Standard; Designator: ZKR20X5/G/T200MA; Footprint: zkr 20x5 (gesloten); Library Reference: ZKR20X5/G/T200MA; Pin Count: 2
footprint zkr 20x5 (gesloten)
pins: 1, 2

## ZKR20X5/G/T250MA
designator F?
zekering 20x5mm, gesloten houder met schroefdopje, T250mA; Part Number: ZKR20X5/G/T250MA; Component Kind: Standard; Component Type: Standard; Designator: ZKR20X5/G/T250MA; Footprint: zkr 20x5 (gesloten); Library Reference: ZKR20X5/G/T250MA; Pin Count: 2
footprint zkr 20x5 (gesloten)
pins: 1, 2

## ZKR20X5/G/T315MA
designator F?
zekering 20x5mm, gesloten houder met schroefdopje, T315mA; Part Number: ZKR20X5/G/T315MA; Component Kind: Standard; Component Type: Standard; Designator: ZKR20X5/G/T315MA; Footprint: zkr 20x5 (gesloten); Library Reference: ZKR20X5/G/T315MA; Pin Count: 2
footprint zkr 20x5 (gesloten)
pins: 1, 2

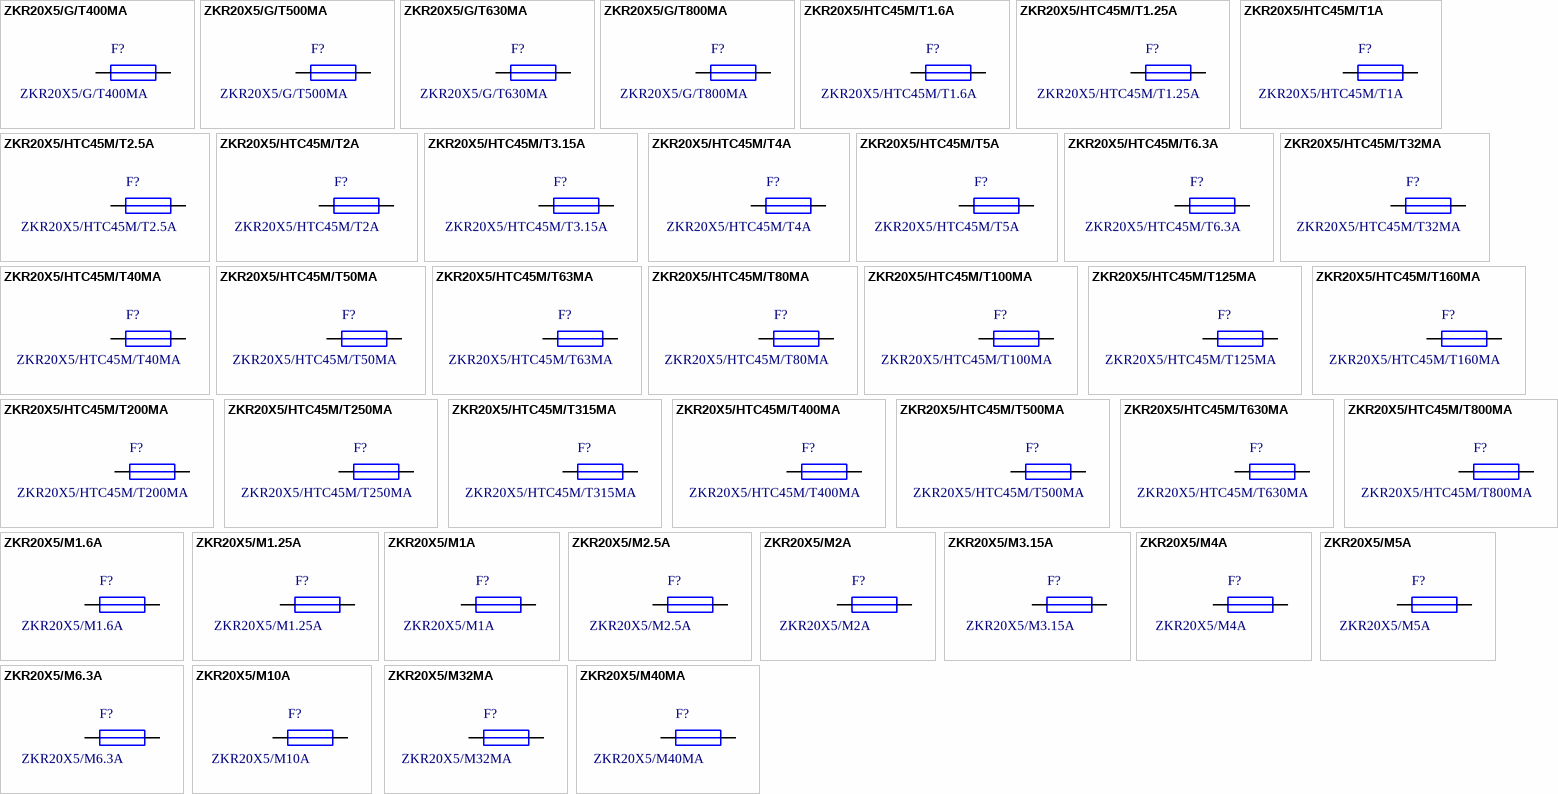
[diagram p128: symbols ZKR20X5/G/T400MA to ZKR20X5/M40MA]

## ZKR20X5/G/T400MA
designator F?
zekering 20x5mm, gesloten houder met schroefdopje, T400mA; Part Number: ZKR20X5/G/T400MA; Component Kind: Standard; Component Type: Standard; Designator: ZKR20X5/G/T400MA; Footprint: zkr 20x5 (gesloten); Library Reference: ZKR20X5/G/T400MA; Pin Count: 2
footprint zkr 20x5 (gesloten)
pins: 1, 2

## ZKR20X5/G/T500MA
designator F?
zekering 20x5mm, gesloten houder met schroefdopje, T500mA; Part Number: ZKR20X5/G/T500MA; Component Kind: Standard; Component Type: Standard; Designator: ZKR20X5/G/T500MA; Footprint: zkr 20x5 (gesloten); Library Reference: ZKR20X5/G/T500MA; Pin Count: 2
footprint zkr 20x5 (gesloten)
pins: 1, 2

## ZKR20X5/G/T630MA
designator F?
zekering 20x5mm, gesloten houder met schroefdopje, T630mA; Part Number: ZKR20X5/G/T630MA; Component Kind: Standard; Component Type: Standard; Designator: ZKR20X5/G/T630MA; Footprint: zkr 20x5 (gesloten); Library Reference: ZKR20X5/G/T630MA; Pin Count: 2
footprint zkr 20x5 (gesloten)
pins: 1, 2

## ZKR20X5/G/T800MA
designator F?
zekering 20x5mm, gesloten houder met schroefdopje, T800mA; Part Number: ZKR20X5/G/T800MA; Component Kind: Standard; Component Type: Standard; Designator: ZKR20X5/G/T800MA; Footprint: zkr 20x5 (gesloten); Library Reference: ZKR20X5/G/T800MA; Pin Count: 2
footprint zkr 20x5 (gesloten)
pins: 1, 2

## ZKR20X5/HTC45M/T1.6A
designator F?
zekering 20x5mm, gesloten houder HTC-45M, T1.6A; Part Number: ZKR20X5/HTC45M/T1.6A; Component Kind: Standard; Component Type: Standard; Designator: ZKR20X5/HTC45M/T1.6A; Footprint: zkr 20x5 (HTC-45M); Library Reference: ZKR20X5/HTC45M/T1.6A; Pin Count: 2
footprint zkr 20x5 (HTC-45M)
pins: 1, 2

## ZKR20X5/HTC45M/T1.25A
designator F?
zekering 20x5mm, gesloten houder HTC-45M, T1.25A; Part Number: ZKR20X5/HTC45M/T1.25A; Component Kind: Standard; Component Type: Standard; Designator: ZKR20X5/HTC45M/T1.25A; Footprint: zkr 20x5 (HTC-45M); Library Reference: ZKR20X5/HTC45M/T1.25A; Pin Count: 2
footprint zkr 20x5 (HTC-45M)
pins: 1, 2

## ZKR20X5/HTC45M/T1A
designator F?
zekering 20x5mm, gesloten houder HTC-45M, T1A; Part Number: ZKR20X5/HTC45M/T1A; Component Kind: Standard; Component Type: Standard; Designator: ZKR20X5/HTC45M/T1A; Footprint: zkr 20x5 (HTC-45M); Library Reference: ZKR20X5/HTC45M/T1A; Pin Count: 2
footprint zkr 20x5 (HTC-45M)
pins: 1, 2

## ZKR20X5/HTC45M/T2.5A
designator F?
zekering 20x5mm, gesloten houder HTC-45M, T2.5A; Part Number: ZKR20X5/HTC45M/T2.5A; Component Kind: Standard; Component Type: Standard; Designator: ZKR20X5/HTC45M/T2.5A; Footprint: zkr 20x5 (HTC-45M); Library Reference: ZKR20X5/HTC45M/T2.5A; Pin Count: 2
footprint zkr 20x5 (HTC-45M)
pins: 1, 2

## ZKR20X5/HTC45M/T2A
designator F?
zekering 20x5mm, gesloten houder HTC-45M, T2A; Part Number: ZKR20X5/HTC45M/T2A; Component Kind: Standard; Component Type: Standard; Designator: ZKR20X5/HTC45M/T2A; Footprint: zkr 20x5 (HTC-45M); Library Reference: ZKR20X5/HTC45M/T2A; Pin Count: 2
footprint zkr 20x5 (HTC-45M)
pins: 1, 2

## ZKR20X5/HTC45M/T3.15A
designator F?
zekering 20x5mm, gesloten houder HTC-45M, T3.15A; Part Number: ZKR20X5/HTC45M/T3.15A; Component Kind: Standard; Component Type: Standard; Designator: ZKR20X5/HTC45M/T3.15A; Footprint: zkr 20x5 (HTC-45M); Library Reference: ZKR20X5/HTC45M/T3.15A; Pin Count: 2
footprint zkr 20x5 (HTC-45M)
pins: 1, 2

## ZKR20X5/HTC45M/T4A
designator F?
zekering 20x5mm, gesloten houder HTC-45M, T4A; Part Number: ZKR20X5/HTC45M/T4A; Component Kind: Standard; Component Type: Standard; Designator: ZKR20X5/HTC45M/T4A; Footprint: zkr 20x5 (HTC-45M); Library Reference: ZKR20X5/HTC45M/T4A; Pin Count: 2
footprint zkr 20x5 (HTC-45M)
pins: 1, 2

## ZKR20X5/HTC45M/T5A
designator F?
zekering 20x5mm, gesloten houder HTC-45M, T5A; Part Number: ZKR20X5/HTC45M/T5A; Component Kind: Standard; Component Type: Standard; Designator: ZKR20X5/HTC45M/T5A; Footprint: zkr 20x5 (HTC-45M); Library Reference: ZKR20X5/HTC45M/T5A; Pin Count: 2
footprint zkr 20x5 (HTC-45M)
pins: 1, 2

## ZKR20X5/HTC45M/T6.3A
designator F?
zekering 20x5mm, gesloten houder HTC-45M, T6.3A; Part Number: ZKR20X5/HTC45M/T6.3A; Component Kind: Standard; Component Type: Standard; Designator: ZKR20X5/HTC45M/T6.3A; Footprint: zkr 20x5 (HTC-45M); Library Reference: ZKR20X5/HTC45M/T6.3A; Pin Count: 2
footprint zkr 20x5 (HTC-45M)
pins: 1, 2

## ZKR20X5/HTC45M/T32MA
designator F?
zekering 20x5mm, gesloten houder HTC-45M, T32mA
footprint zkr 20x5 (HTC-45M)
pins: 1, 2

## ZKR20X5/HTC45M/T40MA
designator F?
zekering 20x5mm, gesloten houder HTC-45M, T40mA; Part Number: ZKR20X5/HTC45M/T40MA; Component Kind: Standard; Component Type: Standard; Designator: ZKR20X5/HTC45M/T40MA; Footprint: zkr 20x5 (HTC-45M); Library Reference: ZKR20X5/HTC45M/T40MA; Pin Count: 2
footprint zkr 20x5 (HTC-45M)
pins: 1, 2

## ZKR20X5/HTC45M/T50MA
designator F?
zekering 20x5mm, gesloten houder HTC-45M, T50mA; Part Number: ZKR20X5/HTC45M/T50MA; Component Kind: Standard; Component Type: Standard; Designator: ZKR20X5/HTC45M/T50MA; Footprint: zkr 20x5 (HTC-45M); Library Reference: ZKR20X5/HTC45M/T50MA; Pin Count: 2
footprint zkr 20x5 (HTC-45M)
pins: 1, 2

## ZKR20X5/HTC45M/T63MA
designator F?
zekering 20x5mm, gesloten houder HTC-45M, T63mA; Part Number: ZKR20X5/HTC45M/T63MA; Component Kind: Standard; Component Type: Standard; Designator: ZKR20X5/HTC45M/T63MA; Footprint: zkr 20x5 (HTC-45M); Library Reference: ZKR20X5/HTC45M/T63MA; Pin Count: 2
footprint zkr 20x5 (HTC-45M)
pins: 1, 2

## ZKR20X5/HTC45M/T80MA
designator F?
zekering 20x5mm, gesloten houder HTC-45M, T80mA; Part Number: ZKR20X5/HTC45M/T80MA; Component Kind: Standard; Component Type: Standard; Designator: ZKR20X5/HTC45M/T80MA; Footprint: zkr 20x5 (HTC-45M); Library Reference: ZKR20X5/HTC45M/T80MA; Pin Count: 2
footprint zkr 20x5 (HTC-45M)
pins: 1, 2

## ZKR20X5/HTC45M/T100MA
designator F?
zekering 20x5mm, gesloten houder HTC-45M, T100mA; Part Number: ZKR20X5/HTC45M/T100MA; Component Kind: Standard; Component Type: Standard; Designator: ZKR20X5/HTC45M/T100MA; Footprint: zkr 20x5 (HTC-45M); Library Reference: ZKR20X5/HTC45M/T100MA; Pin Count: 2
footprint zkr 20x5 (HTC-45M)
pins: 1, 2

## ZKR20X5/HTC45M/T125MA
designator F?
zekering 20x5mm, gesloten houder HTC-45M, T125mA; Part Number: ZKR20X5/HTC45M/T125MA; Component Kind: Standard; Component Type: Standard; Designator: ZKR20X5/HTC45M/T125MA; Footprint: zkr 20x5 (HTC-45M); Library Reference: ZKR20X5/HTC45M/T125MA; Pin Count: 2
footprint zkr 20x5 (HTC-45M)
pins: 1, 2

## ZKR20X5/HTC45M/T160MA
designator F?
zekering 20x5mm, gesloten houder HTC-45M, T160mA; Part Number: ZKR20X5/HTC45M/T160MA; Component Kind: Standard; Component Type: Standard; Designator: ZKR20X5/HTC45M/T160MA; Footprint: zkr 20x5 (HTC-45M); Library Reference: ZKR20X5/HTC45M/T160MA; Pin Count: 2
footprint zkr 20x5 (HTC-45M)
pins: 1, 2

## ZKR20X5/HTC45M/T200MA
designator F?
zekering 20x5mm, gesloten houder HTC-45M, T200mA; Part Number: ZKR20X5/HTC45M/T200MA; Component Kind: Standard; Component Type: Standard; Designator: ZKR20X5/HTC45M/T200MA; Footprint: zkr 20x5 (HTC-45M); Library Reference: ZKR20X5/HTC45M/T200MA; Pin Count: 2
footprint zkr 20x5 (HTC-45M)
pins: 1, 2

## ZKR20X5/HTC45M/T250MA
designator F?
zekering 20x5mm, gesloten houder HTC-45M, T250mA; Part Number: ZKR20X5/HTC45M/T250MA; Component Kind: Standard; Component Type: Standard; Designator: ZKR20X5/HTC45M/T250MA; Footprint: zkr 20x5 (HTC-45M); Library Reference: ZKR20X5/HTC45M/T250MA; Pin Count: 2
footprint zkr 20x5 (HTC-45M)
pins: 1, 2

## ZKR20X5/HTC45M/T315MA
designator F?
zekering 20x5mm, gesloten houder HTC-45M, T315mA; Part Number: ZKR20X5/HTC45M/T315MA; Component Kind: Standard; Component Type: Standard; Designator: ZKR20X5/HTC45M/T315MA; Footprint: zkr 20x5 (HTC-45M); Library Reference: ZKR20X5/HTC45M/T315MA; Pin Count: 2
footprint zkr 20x5 (HTC-45M)
pins: 1, 2

## ZKR20X5/HTC45M/T400MA
designator F?
zekering 20x5mm, gesloten houder HTC-45M, T400mA; Part Number: ZKR20X5/HTC45M/T400MA; Component Kind: Standard; Component Type: Standard; Designator: ZKR20X5/HTC45M/T400MA; Footprint: zkr 20x5 (HTC-45M); Library Reference: ZKR20X5/HTC45M/T400MA; Pin Count: 2
footprint zkr 20x5 (HTC-45M)
pins: 1, 2

## ZKR20X5/HTC45M/T500MA
designator F?
zekering 20x5mm, gesloten houder HTC-45M, T500mA; Part Number: ZKR20X5/HTC45M/T500MA; Component Kind: Standard; Component Type: Standard; Designator: ZKR20X5/HTC45M/T500MA; Footprint: zkr 20x5 (HTC-45M); Library Reference: ZKR20X5/HTC45M/T500MA; Pin Count: 2
footprint zkr 20x5 (HTC-45M)
pins: 1, 2

## ZKR20X5/HTC45M/T630MA
designator F?
zekering 20x5mm, gesloten houder HTC-45M, T630mA; Part Number: ZKR20X5/HTC45M/T630MA; Component Kind: Standard; Component Type: Standard; Designator: ZKR20X5/HTC45M/T630MA; Footprint: zkr 20x5 (HTC-45M); Library Reference: ZKR20X5/HTC45M/T630MA; Pin Count: 2
footprint zkr 20x5 (HTC-45M)
pins: 1, 2

## ZKR20X5/HTC45M/T800MA
designator F?
zekering 20x5mm, gesloten houder HTC-45M, T800mA; Part Number: ZKR20X5/HTC45M/T800MA; Component Kind: Standard; Component Type: Standard; Designator: ZKR20X5/HTC45M/T800MA; Footprint: zkr 20x5 (HTC-45M); Library Reference: ZKR20X5/HTC45M/T800MA; Pin Count: 2
footprint zkr 20x5 (HTC-45M)
pins: 1, 2

## ZKR20X5/M1.6A
designator F?
zekering 20x5mm, houder uit één stuk, M1.6A; Part Number: ZKR20X5/M1.6A; Component Kind: Standard; Component Type: Standard; Designator: ZKR20X5/M1.6A; Footprint: zkr 20x5; Library Reference: ZKR20X5/M1.6A; Pin Count: 2
footprint zkr 20x5
pins: 1, 2

## ZKR20X5/M1.25A
designator F?
zekering 20x5mm, houder uit één stuk, M1.25A; Part Number: ZKR20X5/M1.25A; Component Kind: Standard; Component Type: Standard; Designator: ZKR20X5/M1.25A; Footprint: zkr 20x5; Library Reference: ZKR20X5/M1.25A; Pin Count: 2
footprint zkr 20x5
pins: 1, 2

## ZKR20X5/M1A
designator F?
zekering 20x5mm, houder uit één stuk, M1A; Part Number: ZKR20X5/M1A; Component Kind: Standard; Component Type: Standard; Designator: ZKR20X5/M1A; Footprint: zkr 20x5; Library Reference: ZKR20X5/M1A; Pin Count: 2
footprint zkr 20x5
pins: 1, 2

## ZKR20X5/M2.5A
designator F?
zekering 20x5mm, houder uit één stuk, M2.5A; Part Number: ZKR20X5/M2.5A; Component Kind: Standard; Component Type: Standard; Designator: ZKR20X5/M2.5A; Footprint: zkr 20x5; Library Reference: ZKR20X5/M2.5A; Pin Count: 2
footprint zkr 20x5
pins: 1, 2

## ZKR20X5/M2A
designator F?
zekering 20x5mm, houder uit één stuk, M2A; Part Number: ZKR20X5/M2A; Component Kind: Standard; Component Type: Standard; Designator: ZKR20X5/M2A; Footprint: zkr 20x5; Library Reference: ZKR20X5/M2A; Pin Count: 2
footprint zkr 20x5
pins: 1, 2

## ZKR20X5/M3.15A
designator F?
zekering 20x5mm, houder uit één stuk, M3.15A; Part Number: ZKR20X5/M3.15A; Component Kind: Standard; Component Type: Standard; Designator: ZKR20X5/M3.15A; Footprint: zkr 20x5; Library Reference: ZKR20X5/M3.15A; Pin Count: 2
footprint zkr 20x5
pins: 1, 2

## ZKR20X5/M4A
designator F?
zekering 20x5mm, houder uit één stuk, M4A; Part Number: ZKR20X5/M4A; Component Kind: Standard; Component Type: Standard; Designator: ZKR20X5/M4A; Footprint: zkr 20x5; Library Reference: ZKR20X5/M4A; Pin Count: 2
footprint zkr 20x5
pins: 1, 2

## ZKR20X5/M5A
designator F?
zekering 20x5mm, houder uit één stuk, M5A; Part Number: ZKR20X5/M5A; Component Kind: Standard; Component Type: Standard; Designator: ZKR20X5/M5A; Footprint: zkr 20x5; Library Reference: ZKR20X5/M5A; Pin Count: 2
footprint zkr 20x5
pins: 1, 2

## ZKR20X5/M6.3A
designator F?
zekering 20x5mm, houder uit één stuk, M6.3A; Part Number: ZKR20X5/M6.3A; Component Kind: Standard; Component Type: Standard; Designator: ZKR20X5/M6.3A; Footprint: zkr 20x5; Library Reference: ZKR20X5/M6.3A; Pin Count: 2
footprint zkr 20x5
pins: 1, 2

## ZKR20X5/M10A
designator F?
zekering 20x5mm, houder uit één stuk, M10A; Part Number: ZKR20X5/M10A; Component Kind: Standard; Component Type: Standard; Designator: ZKR20X5/M10A; Footprint: zkr 20x5; Library Reference: ZKR20X5/M10A; Pin Count: 2
footprint zkr 20x5
pins: 1, 2

## ZKR20X5/M32MA
designator F?
zekering 20x5mm, houder uit één stuk, M32mA; Part Number: ZKR20X5/M32MA; Component Kind: Standard; Component Type: Standard; Designator: ZKR20X5/M32MA; Footprint: zkr 20x5; Library Reference: ZKR20X5/M32MA; Pin Count: 2
footprint zkr 20x5
pins: 1, 2

## ZKR20X5/M40MA
designator F?
zekering 20x5mm, houder uit één stuk, M40mA; Part Number: ZKR20X5/M40MA; Component Kind: Standard; Component Type: Standard; Designator: ZKR20X5/M40MA; Footprint: zkr 20x5; Library Reference: ZKR20X5/M40MA; Pin Count: 2
footprint zkr 20x5
pins: 1, 2

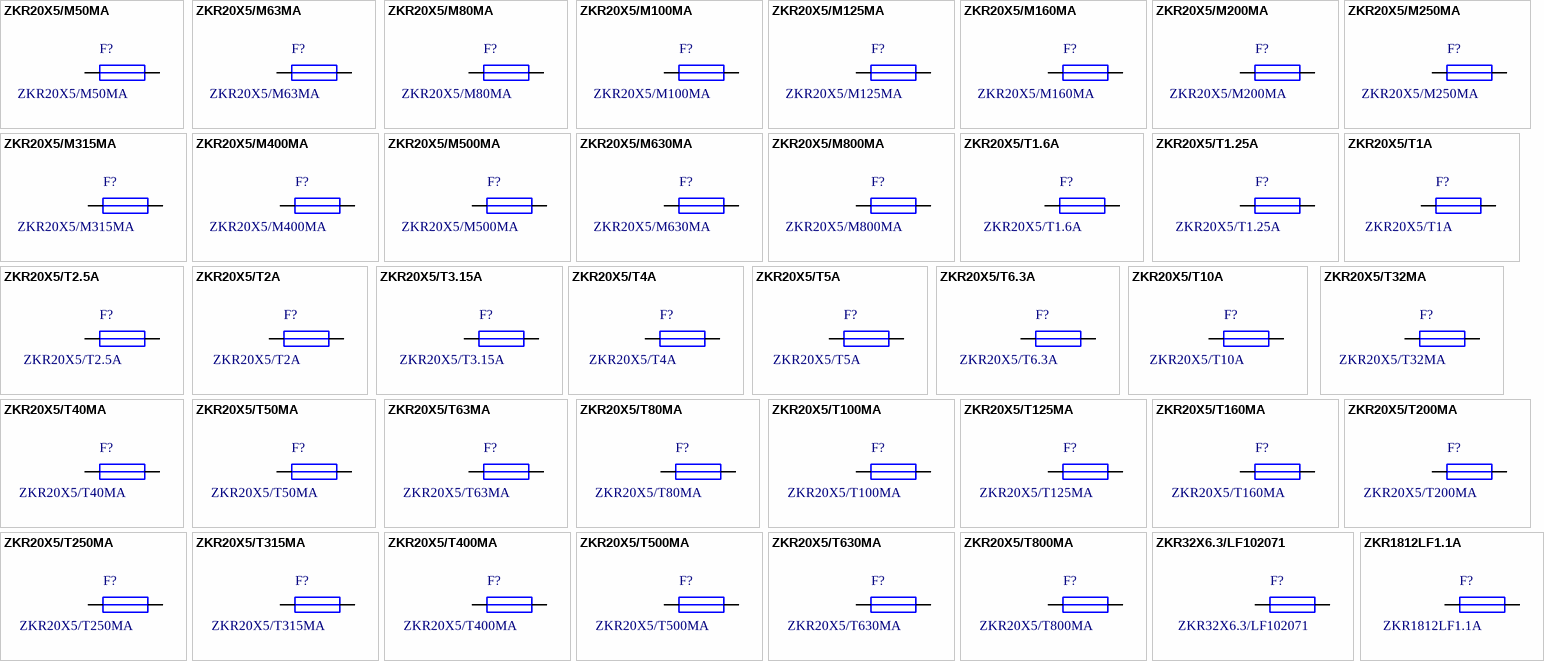
[diagram p129: symbols ZKR20X5/M50MA to ZKR1812LF1.1A]

## ZKR20X5/M50MA
designator F?
zekering 20x5mm, houder uit één stuk, M50mA; Part Number: ZKR20X5/M50MA; Component Kind: Standard; Component Type: Standard; Designator: ZKR20X5/M50MA; Footprint: zkr 20x5; Library Reference: ZKR20X5/M50MA; Pin Count: 2
footprint zkr 20x5
pins: 1, 2

## ZKR20X5/M63MA
designator F?
zekering 20x5mm, houder uit één stuk, M63mA; Part Number: ZKR20X5/M63MA; Component Kind: Standard; Component Type: Standard; Designator: ZKR20X5/M63MA; Footprint: zkr 20x5; Library Reference: ZKR20X5/M63MA; Pin Count: 2
footprint zkr 20x5
pins: 1, 2

## ZKR20X5/M80MA
designator F?
zekering 20x5mm, houder uit één stuk, M80mA; Part Number: ZKR20X5/M80MA; Component Kind: Standard; Component Type: Standard; Designator: ZKR20X5/M80MA; Footprint: zkr 20x5; Library Reference: ZKR20X5/M80MA; Pin Count: 2
footprint zkr 20x5
pins: 1, 2

## ZKR20X5/M100MA
designator F?
zekering 20x5mm, houder uit één stuk, M100mA; Part Number: ZKR20X5/M100MA; Component Kind: Standard; Component Type: Standard; Designator: ZKR20X5/M100MA; Footprint: zkr 20x5; Library Reference: ZKR20X5/M100MA; Pin Count: 2
footprint zkr 20x5
pins: 1, 2

## ZKR20X5/M125MA
designator F?
zekering 20x5mm, houder uit één stuk, M125mA; Part Number: ZKR20X5/M125MA; Component Kind: Standard; Component Type: Standard; Designator: ZKR20X5/M125MA; Footprint: zkr 20x5; Library Reference: ZKR20X5/M125MA; Pin Count: 2
footprint zkr 20x5
pins: 1, 2

## ZKR20X5/M160MA
designator F?
zekering 20x5mm, houder uit één stuk, M160mA; Part Number: ZKR20X5/M160MA; Component Kind: Standard; Component Type: Standard; Designator: ZKR20X5/M160MA; Footprint: zkr 20x5; Library Reference: ZKR20X5/M160MA; Pin Count: 2
footprint zkr 20x5
pins: 1, 2

## ZKR20X5/M200MA
designator F?
zekering 20x5mm, houder uit één stuk, M200mA; Part Number: ZKR20X5/M200MA; Component Kind: Standard; Component Type: Standard; Designator: ZKR20X5/M200MA; Footprint: zkr 20x5; Library Reference: ZKR20X5/M200MA; Pin Count: 2
footprint zkr 20x5
pins: 1, 2

## ZKR20X5/M250MA
designator F?
zekering 20x5mm, houder uit één stuk, M250mA; Part Number: ZKR20X5/M250MA; Component Kind: Standard; Component Type: Standard; Designator: ZKR20X5/M250MA; Footprint: zkr 20x5; Library Reference: ZKR20X5/M250MA; Pin Count: 2
footprint zkr 20x5
pins: 1, 2

## ZKR20X5/M315MA
designator F?
zekering 20x5mm, houder uit één stuk, M315mA; Part Number: ZKR20X5/M315MA; Component Kind: Standard; Component Type: Standard; Designator: ZKR20X5/M315MA; Footprint: zkr 20x5; Library Reference: ZKR20X5/M315MA; Pin Count: 2
footprint zkr 20x5
pins: 1, 2

## ZKR20X5/M400MA
designator F?
zekering 20x5mm, houder uit één stuk, M400mA; Part Number: ZKR20X5/M400MA; Component Kind: Standard; Component Type: Standard; Designator: ZKR20X5/M400MA; Footprint: zkr 20x5; Library Reference: ZKR20X5/M400MA; Pin Count: 2
footprint zkr 20x5
pins: 1, 2

## ZKR20X5/M500MA
designator F?
zekering 20x5mm, houder uit één stuk, M500mA; Part Number: ZKR20X5/M500MA; Component Kind: Standard; Component Type: Standard; Designator: ZKR20X5/M500MA; Footprint: zkr 20x5; Library Reference: ZKR20X5/M500MA; Pin Count: 2
footprint zkr 20x5
pins: 1, 2

## ZKR20X5/M630MA
designator F?
zekering 20x5mm, houder uit één stuk, M630mA; Part Number: ZKR20X5/M630MA; Component Kind: Standard; Component Type: Standard; Designator: ZKR20X5/M630MA; Footprint: zkr 20x5; Library Reference: ZKR20X5/M630MA; Pin Count: 2
footprint zkr 20x5
pins: 1, 2

## ZKR20X5/M800MA
designator F?
zekering 20x5mm, houder uit één stuk, M800mA; Part Number: ZKR20X5/M800MA; Component Kind: Standard; Component Type: Standard; Designator: ZKR20X5/M800MA; Footprint: zkr 20x5; Library Reference: ZKR20X5/M800MA; Pin Count: 2
footprint zkr 20x5
pins: 1, 2

## ZKR20X5/T1.6A
designator F?
zekering 20x5mm, houder uit één stuk, T1.6A; Part Number: ZKR20X5/T1.6A; Component Kind: Standard; Component Type: Standard; Designator: ZKR20X5/T1.6A; Footprint: zkr 20x5; Library Reference: ZKR20X5/T1.6A; Pin Count: 2
footprint zkr 20x5
pins: 1, 2

## ZKR20X5/T1.25A
designator F?
zekering 20x5mm, houder uit één stuk, T1.25A; Part Number: ZKR20X5/T1.25A; Component Kind: Standard; Component Type: Standard; Designator: ZKR20X5/T1.25A; Footprint: zkr 20x5; Library Reference: ZKR20X5/T1.25A; Pin Count: 2
footprint zkr 20x5
pins: 1, 2

## ZKR20X5/T1A
designator F?
zekering 20x5mm, houder uit één stuk, T1A; Part Number: ZKR20X5/T1A; Component Kind: Standard; Component Type: Standard; Designator: ZKR20X5/T1A; Footprint: zkr 20x5; Library Reference: ZKR20X5/T1A; Pin Count: 2
footprint zkr 20x5
pins: 1, 2

## ZKR20X5/T2.5A
designator F?
zekering 20x5mm, houder uit één stuk, T2.5A; Part Number: ZKR20X5/T2.5A; Component Kind: Standard; Component Type: Standard; Designator: ZKR20X5/T2.5A; Footprint: zkr 20x5; Library Reference: ZKR20X5/T2.5A; Pin Count: 2
footprint zkr 20x5
pins: 1, 2

## ZKR20X5/T2A
designator F?
zekering 20x5mm, houder uit één stuk, T2A; Part Number: ZKR20X5/T2A; Component Kind: Standard; Component Type: Standard; Designator: ZKR20X5/T2A; Footprint: zkr 20x5; Library Reference: ZKR20X5/T2A; Pin Count: 2
footprint zkr 20x5
pins: 1, 2

## ZKR20X5/T3.15A
designator F?
zekering 20x5mm, houder uit één stuk, T3.15A; Part Number: ZKR20X5/T3.15A; Component Kind: Standard; Component Type: Standard; Designator: ZKR20X5/T3.15A; Footprint: zkr 20x5; Library Reference: ZKR20X5/T3.15A; Pin Count: 2
footprint zkr 20x5
pins: 1, 2

## ZKR20X5/T4A
designator F?
zekering 20x5mm, houder uit één stuk, T4A; Part Number: ZKR20X5/T4A; Component Kind: Standard; Component Type: Standard; Designator: ZKR20X5/T4A; Footprint: zkr 20x5; Library Reference: ZKR20X5/T4A; Pin Count: 2
footprint zkr 20x5
pins: 1, 2

## ZKR20X5/T5A
designator F?
zekering 20x5mm, houder uit één stuk, T5A; Part Number: ZKR20X5/T5A; Component Kind: Standard; Component Type: Standard; Designator: ZKR20X5/T5A; Footprint: zkr 20x5; Library Reference: ZKR20X5/T5A; Pin Count: 2
footprint zkr 20x5
pins: 1, 2

## ZKR20X5/T6.3A
designator F?
zekering 20x5mm, houder uit één stuk, T6.3A; Part Number: ZKR20X5/T6.3A; Component Kind: Standard; Component Type: Standard; Designator: ZKR20X5/T6.3A; Footprint: zkr 20x5; Library Reference: ZKR20X5/T6.3A; Pin Count: 2
footprint zkr 20x5
pins: 1, 2

## ZKR20X5/T10A
designator F?
zekering 20x5mm, houder uit één stuk, T10A; Part Number: ZKR20X5/T10A; Component Kind: Standard; Component Type: Standard; Designator: ZKR20X5/T10A; Footprint: zkr 20x5; Library Reference: ZKR20X5/T10A; Pin Count: 2
footprint zkr 20x5
pins: 1, 2

## ZKR20X5/T32MA
designator F?
zekering 20x5mm, houder uit één stuk, T32mA
footprint zkr 20x5
pins: 1, 2

## ZKR20X5/T40MA
designator F?
zekering 20x5mm, houder uit één stuk, T40mA; Part Number: ZKR20X5/T40MA; Component Kind: Standard; Component Type: Standard; Designator: ZKR20X5/T40MA; Footprint: zkr 20x5; Library Reference: ZKR20X5/T40MA; Pin Count: 2
footprint zkr 20x5
pins: 1, 2